# EAGLE library part OLIMEX_CONNECTORS_MICRO_SD/MMC (library iMX233-OLinuXino-NANO_Rev_B)
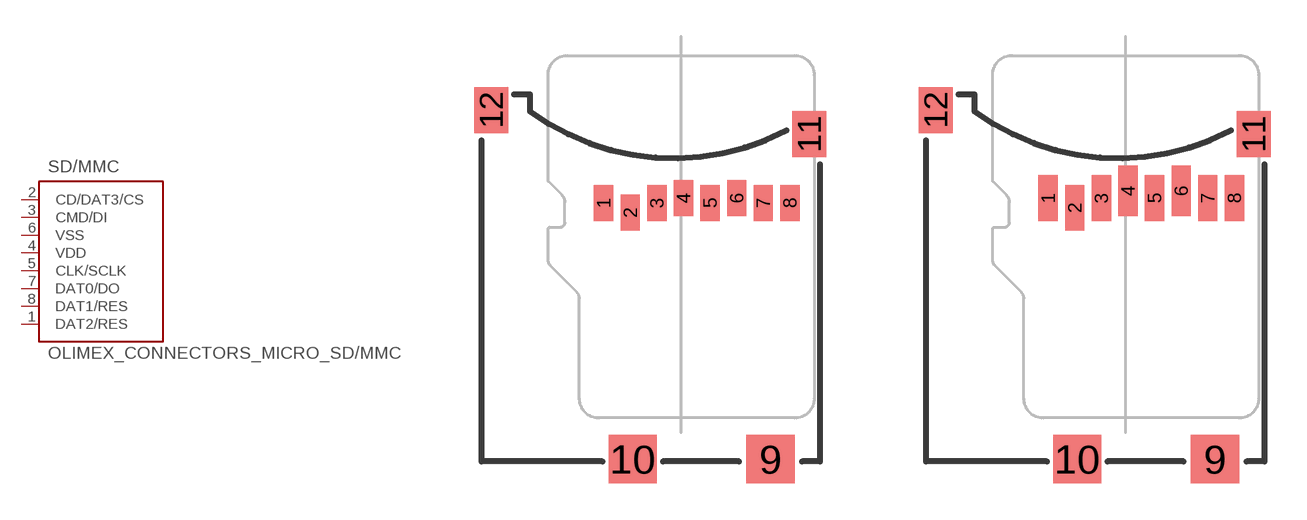
[diagram p0: symbol with the pads of OLIMEX_CONNECTORS_TFR-MEM-CON; footprints OLIMEX_CONNECTORS_TFR-MEM-CON, OLIMEX_CONNECTORS_TFR/C-MEM-CON]

Designator prefix SD/MMC

## OLIMEX_CONNECTORS_MICRO_SD/MMC  [OLIMEX_CONNECTORS_TFR-MEM-CON]
1  DAT2/RES
2  CD/DAT3/CS  in
3  CMD/DI  in
4  VDD  pwr
5  CLK/SCLK  in
6  VSS  pwr
7  DAT0/DO  out
8  DAT1/RES

## OLIMEX_CONNECTORS_MICRO_SD/MMC_NEW  [OLIMEX_CONNECTORS_TFR/C-MEM-CON]
Pads as for OLIMEX_CONNECTORS_TFR-MEM-CON

## Footprint OLIMEX_CONNECTORS_TFR-MEM-CON (pad centres in mm)
smd 0.8 x 1.5: 1 -3.2,10.7; 2 -2.1,10.3; 3 -1,10.7; 4 0.1,10.9; 5 1.2,10.7; 6 2.3,10.9; 7 3.4,10.7; 8 4.5,10.7
smd 2 x 2: 9 3.7,0.1; 10 -2,0.1
smd 1.4 x 1.9: 11 5.3,13.55; 12 -7.85,14.55

## Footprint OLIMEX_CONNECTORS_TFR/C-MEM-CON (pad centres in mm)
old package (TFR-MEM-CON) + new package (TFC-WXCII-08-LF)
smd 0.8 x 1.9: 1 -3.2,10.9; 2 -2.1,10.5; 3 -1,10.9; 5 1.2,10.9; 7 3.4,10.9; 8 4.5,10.9
smd 0.8 x 2.1: 4 0.1,11.2; 6 2.3,11.2
smd 2 x 2: 9 3.7,0.1; 10 -2,0.1
smd 1.4 x 1.9: 11 5.3,13.55; 12 -7.85,14.55